# Altium footprint library CON 640453-3.PcbLib: 1 footprints
Each footprint in its own frame and in the unit in brackets; x right, y up, seen from the top. Pads: shape width x height; smd on the part's side, far side on the other; paste and mask are expansions set on the pad; w line width, h text height; cw(c..) or ccw(c..) is an arc to the next point about the centre after c.
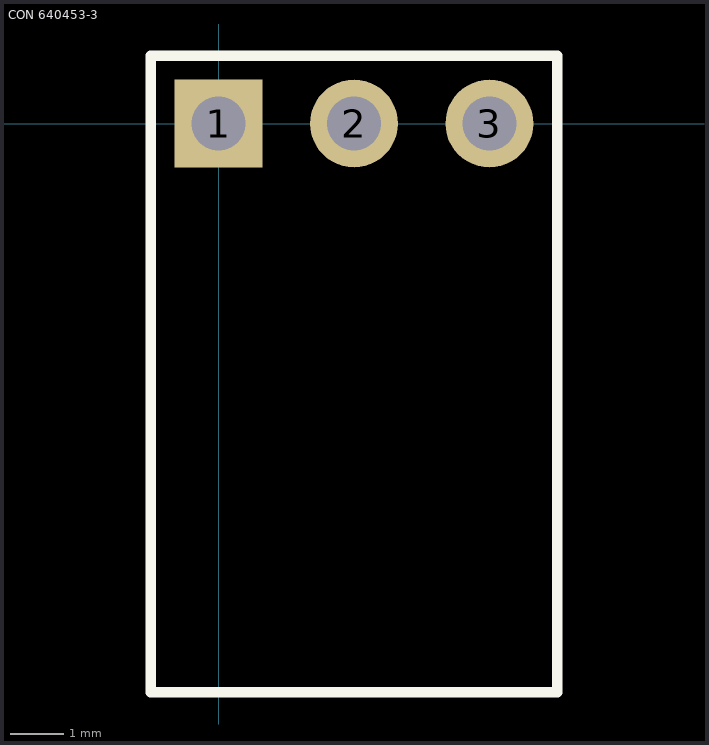
[diagram p0: the footprint, top view; thin cyan lines are the x and y axes]

## CON 640453-3 [mil]
pads (3):
  rect 65x65 hole 40: 1(0,0)
  round 65 hole 40: 2(100,0) 3(200,0)
Top Overlay:
  lines w7.87: -50,-420 -50,50 250,50 250,-420 -50,-420
3D body: height 188, standoff 0, extent -50,-420 250,15